# Altium footprint library NR6028.PcbLib: 1 footprints
Each footprint in its own frame and in the unit in brackets; x right, y up, seen from the top. Pads: shape width x height; smd on the part's side, far side on the other; paste and mask are expansions set on the pad; w line width, h text height; cw(c..) or ccw(c..) is an arc to the next point about the centre after c.
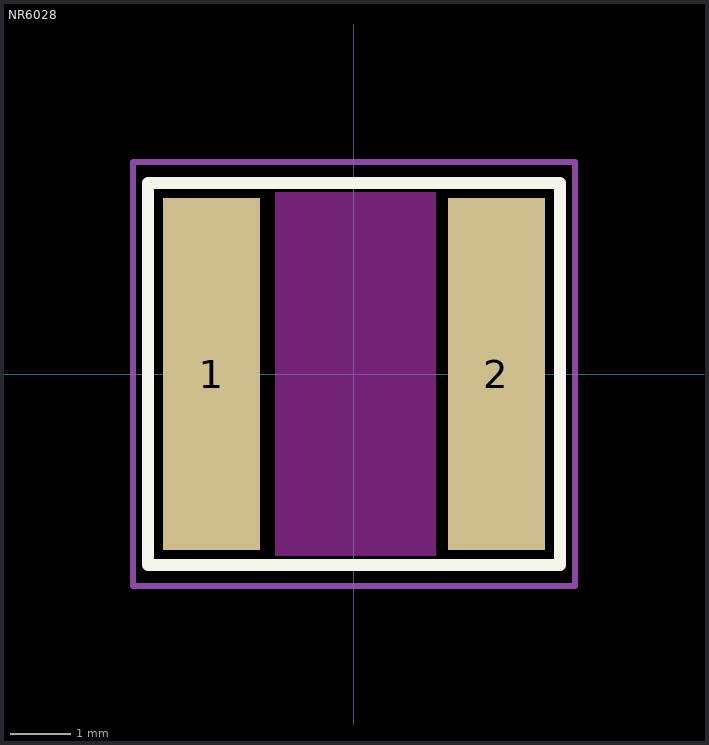
[diagram p0: the footprint, top view; thin cyan lines are the x and y axes]

## NR6028 [mm]
pads (2):
  rect 1.6x5.8 smd: 1(-2.35,0) 2(2.35,0)
Top Layer keep-out:
  rectangle: -1.3,-3 1.35,3
Top Overlay:
  lines w0.2: -3.4,-3.15 -3.4,3.15 3.4,3.15 3.4,-3.15 -3.4,-3.15
Top Courtyard:
  lines w0.1: -3.65,-3.5 -3.65,3.5 3.65,3.5 3.65,-3.5 -1.3,-3.5 -3.65,-3.5
3D body "User Library-NR6028T150M.step": height 2.81, standoff -0.05, extent -3,-3 3,3